# Altium footprint library FYDP_library_pcb.PcbLib: 21 footprints (part 2 of 2)
Each footprint in its own frame and in the unit in brackets; x right, y up, seen from the top. Pads: shape width x height; smd on the part's side, far side on the other; paste and mask are expansions set on the pad; w line width, h text height; cw(c..) or ccw(c..) is an arc to the next point about the centre after c.
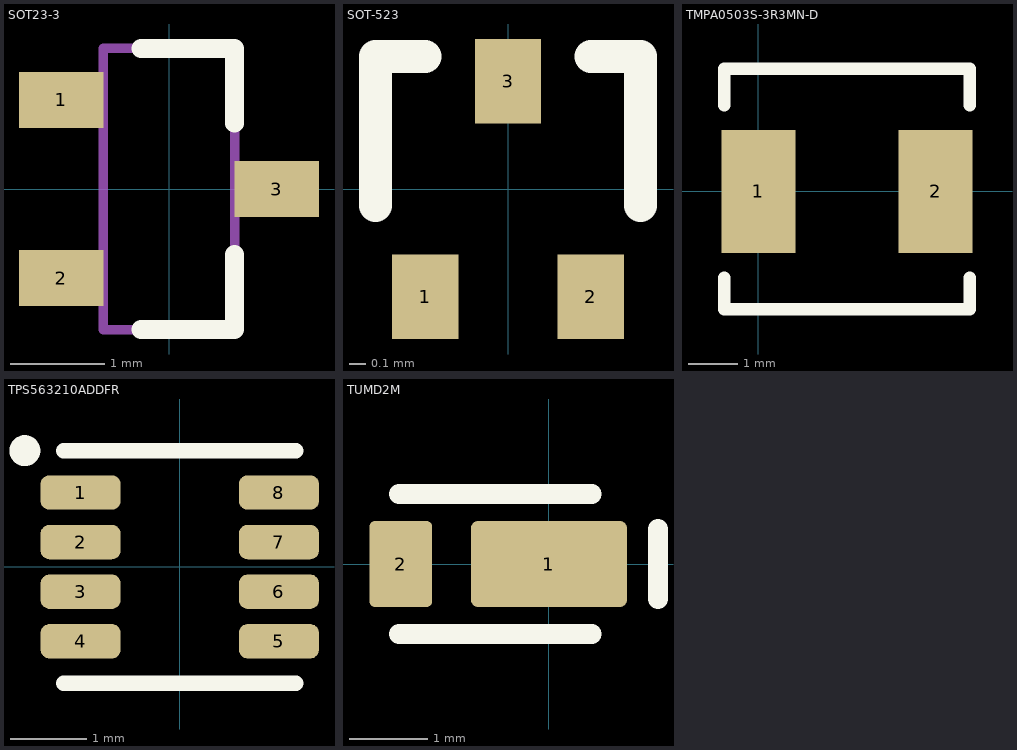
[diagram p1: the footprints below, top view; thin cyan lines are the x and y axes]

## SOT23-3 [mm] "SOT23, 3-Leads, Body 2.90x2.30mm, Pitch 0.95mm, IPC Medium Density"
height 1.1
pads (3):
  rect 0.9x0.6 smd: 1(-1.15,0.95) 2(-1.15,-0.95) 3(1.15,0)
Top Overlay:
  lines w0.2: -0.3,-1.5 0.7,-1.5 0.7,-0.7 ; -0.3,1.5 0.7,1.5 0.7,0.7
Mechanical 13:
  lines w0.1: -0.7,-1.5 0.7,-1.5 0.7,1.5 -0.7,1.5 -0.7,-1.5
3D body "SOT95P230X110-3N.step": height 1.1, standoff 0, extent -1.3,-1.5 1.3,1.5

## SOT-523 [mm]
height 0.8
pads (3):
  rect 0.4x0.51 smd: 1(-0.5,-0.65) 2(0.5,-0.65) 3(0,0.65)
Top Overlay:
  lines w0.2: -0.8,-0.1 -0.8,0.8 -0.5,0.8 ; 0.5,0.8 0.8,0.8 0.8,-0.1
3D body "User Library-SOT-523.STEP": height 0.81, standoff -0.04, extent -0.8,-0.828 0.8,0.8

## TMPA0503S-3R3MN-D [mm]
height 2.8
pads (2):
  rect 1.5x2.5 smd: 1(0,0) 2(3.6,0)
Top Overlay:
  lines w0.254: -0.7,-1.75 -0.7,-2.4 4.3,-2.4 4.3,-1.75 ; -0.7,1.75 -0.7,2.5 4.3,2.5 4.3,1.75
3D body "User Library-SPM5030.STEP": height 3, standoff 0, extent -0.8,-2.5 4.4,2.5

## TPS563210ADDFR [mm] "SOT-23-8"
height 1.1
pads (8):
  rrect50% 1.05x0.45 smd: 1(-1.3,0.975) 2(-1.3,0.325) 3(-1.3,-0.325) 4(-1.3,-0.975) 5(1.3,-0.975) 6(1.3,-0.325) 7(1.3,0.325) 8(1.3,0.975)
Top Overlay:
  circle w0.254: c-2.032,1.524 r0.076
  lines w0.2: -1.524,-1.524 1.524,-1.524 ; -1.524,1.524 1.524,1.524
3D body "User Library-SOT-23-8 Thin.STEP": height 1.1, standoff 0, extent -1.48,-1.45 1.478,1.45

## TUMD2M [mm] "SOD-323HE"
pads (2):
  rrect15% 2x1.1 smd: 1(0,0)
  rrect15% 0.8x1.1 smd: 2(-1.9,0)
Top Overlay:
  lines w0.254: -1.925,-0.9 0.55,-0.9 ; -1.925,0.9 0.55,0.9 ; 1.4,-0.45 1.4,0.45
3D body "User Library-TUMD2.STEP": height 0.81, standoff 0, extent -1.92,-0.65 0.58,0.65